# Altium integrated library GRM0335C1HR60BA01D.IntLib: 1 symbol
Pins are listed as number, name and electrical type; pins without a type are passive.

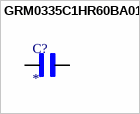
[diagram p0: symbol GRM0335C1HR60BA01D]

## GRM0335C1HR60BA01D
designator C?
SMD Capacitor C0G(EIA) with Capacitance: 0.60pF Tol. 0.1pF. Rated Voltage: 50Vdc; MF: Murata; MP: GRM0335C1HR60BA01D; SnapEDA_Link: https://www.snapeda.com/parts/GRM0335C1HR60BA01D/Murata/view-part/?ref=snap; Package: 0603 Murata; Value: *; Check_prices: https://www.snapeda.com/parts/GRM0335C1HR60BA01D/Murata/view-part/?ref=eda
footprint CAPC0603X33N
pins: 1, 2